# Altium footprint library Trig_PcbLib.PcbLib: 29 footprints (part 1 of 2)
Each footprint in its own frame and in the unit in brackets; x right, y up, seen from the top. Pads: shape width x height; smd on the part's side, far side on the other; paste and mask are expansions set on the pad; w line width, h text height; cw(c..) or ccw(c..) is an arc to the next point about the centre after c.
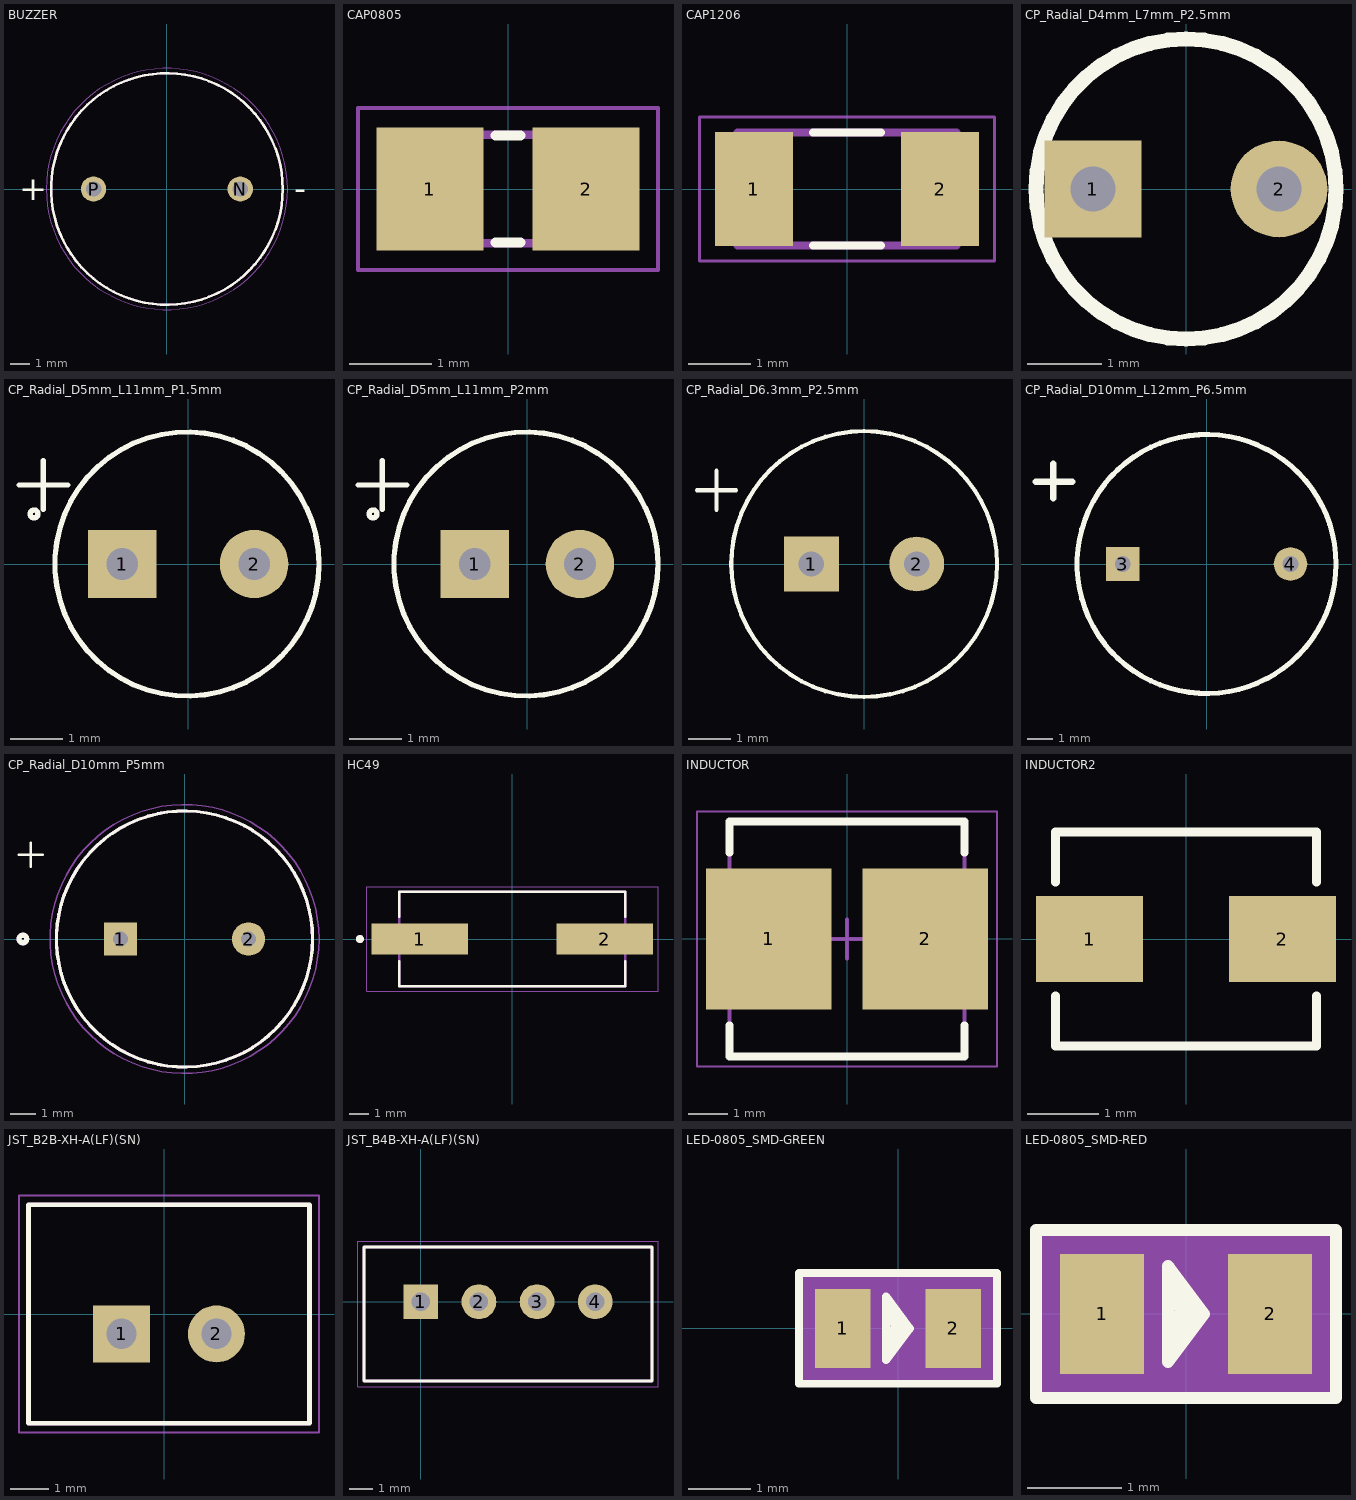
[diagram p0: the footprints below, top view; thin cyan lines are the x and y axes]

## BUZZER [mm]
pads (2):
  round 1.308 hole 0.8: N(3.8,0) P(-3.8,0)
Top Overlay:
  circle w0.127: c0,0 r6
  text "+" at -7.662,-0.572 h1.27
  text "-" at 6.607,-0.571 h1.27
Mechanical 13:
  circle w0.127: c0,0 r6
Mechanical 15:
  circle w0.05: c0,0 r6.25
3D body "Buzzer.step": height 9.56, standoff -5.44, extent -6,-5.925 6,6.075

## CAP0805 [mm]
pads (2):
  rect 1.3x1.5 smd: 1(-0.95,0) 2(0.95,0)
Top Overlay:
  lines w0.127: -0.15,-0.65 0.15,-0.65 ; -0.15,0.65 0.15,0.65
Mechanical 4:
  region: 0.356,0.726 1.106,0.726 1.106,-0.724 0.356,-0.724
  region: -1.092,0.726 -0.342,0.726 -0.342,-0.724 -1.092,-0.724
  region: 0.356,0.726 1.106,0.726 1.106,-0.724 0.356,-0.724
  region: -1.092,0.726 -0.342,0.726 -0.342,-0.724 -1.092,-0.724
  lines w0.102: -0.381,0.66 0.381,0.66 -0.381,0.66 ; -0.356,-0.66 0.381,-0.66 -0.356,-0.66
Mechanical 16:
  lines w0.051: -1.823,-0.983 -1.823,0.983 1.823,0.983 1.823,-0.983 -1.823,-0.983
3D body "70611053.stp": height 0.96, standoff -0.04, extent -1.1,-0.775 1.2,0.775

## CAP1206 [mm]
pads (2):
  rect 1.24x1.82 smd: 1(-1.485,0) 2(1.485,0)
Top Overlay:
  lines w0.127: -0.54,-0.9 0.54,-0.9 ; -0.54,0.9 0.54,0.9
Mechanical 4:
  lines w0.127: -1.75,-0.9 1.75,-0.9 ; -1.75,-0.9 -1.75,0.9 ; -1.75,-0.9 1.75,-0.9 ; -1.75,-0.9 -1.75,0.9 ; -1.75,0.9 1.75,0.9 ; -1.75,0.9 1.75,0.9 ; 1.75,-0.9 1.75,0.9 ; 1.75,-0.9 1.75,0.9
Mechanical 16:
  lines w0.05: -2.355,-1.15 2.355,-1.15 2.355,1.15 -2.355,1.15 -2.355,-1.15
3D body "1206 SMD Capacitor.step": height 1, standoff 0, extent -1.5,-0.775 1.7,0.825

## CP_Radial_D4mm_L7mm_P2.5mm [mm]
pads (2):
  rect 1.3x1.3 hole 0.6: 1(-1.25,0)
  round 1.3 hole 0.6: 2(1.25,0)
Top Overlay:
  circle w0.2: c0,0 r2.016
3D body "User Library-Cap electrolitic radial 4x7.STEP": height 7.15, standoff -1.35, extent -1.999,-2.073 1.999,1.925

## CP_Radial_D5mm_L11mm_P1.5mm [mm]
pads (2):
  rect 1.3x1.3 hole 0.6: 1(-1.25,0)
  round 1.3 hole 0.6: 2(1.25,0)
Top Overlay:
  circle w0.1: c-0.025,0 r2.506
  circle w0.1: c-2.925,0.95 r0.075
  lines w0.1: -3.212,1.5 -2.287,1.5 ; -2.75,1.037 -2.75,1.962
3D body "User Library-Cap electro 5x11x2mm.step": height 11.03, standoff -3.77, extent -2.55,-2.525 2.501,2.526

## CP_Radial_D5mm_L11mm_P2mm [mm]
pads (2):
  rect 1.3x1.3 hole 0.6: 1(-1,0)
  round 1.3 hole 0.6: 2(1,0)
Top Overlay:
  circle w0.1: c-0.025,0 r2.506
  circle w0.1: c-2.925,0.95 r0.075
  lines w0.1: -3.212,1.5 -2.287,1.5 ; -2.75,1.037 -2.75,1.962
3D body "User Library-Cap electro 5x11x2mm.step": height 11.03, standoff -3.77, extent -2.55,-2.525 2.501,2.526

## CP_Radial_D6.3mm_P2.5mm [mm]
pads (2):
  rect 1.3x1.3 hole 0.6: 1(-1.25,0)
  round 1.3 hole 0.6: 2(1.25,0)
Top Overlay:
  circle w0.1: c0,0 r3.151
  lines w0.1: -3.962,1.75 -3.037,1.75 ; -3.5,1.287 -3.5,2.212
3D body "User Library-Cap electro 6_3x11x2_5mm.step": height 11.53, standoff -3.01, extent -3.175,-3.175 3.176,3.176

## CP_Radial_D10mm_L12mm_P6.5mm [mm]
pads (2):
  rect 1.3x1.3 hole 0.6: 3(-3.25,0)
  round 1.3 hole 0.6: 4(3.25,0)
Top Overlay:
  circle w0.2: c0,0 r5.011
  lines w0.254: -6.6,3.175 -5.2,3.175 ; -5.925,2.55 -5.925,3.875

## CP_Radial_D10mm_P5mm [mm]
pads (2):
  rect 1.3x1.3 hole 0.6: 1(-2.5,0)
  round 1.3 hole 0.6: 2(2.5,0)
Top Overlay:
  circle w0.127: c0,0 r5
  circle w0.2: c-6.312,0 r0.15
  circle w0.2: c-6.312,0 r0.15
  lines w0.1: -6.462,3.288 -5.537,3.288 ; -6,2.825 -6,3.75
Mechanical 4:
  circle w0.127: c0,0 r5
  circle w0.2: c-6.312,0 r0.15
  circle w0.127: c0,0 r5
  circle w0.2: c-6.312,0 r0.15
Mechanical 16:
  circle w0.05: c0,0 r5.25
3D body "cpol-v_p5_d10-5_h16-5.stp": height 16.01, standoff -3.3, extent -5.175,-5.05 5.326,5.449

## HC49 [mm]
pads (2):
  rect 4.91x1.57 smd: 1(-4.7,0) 2(4.7,0)
Top Overlay:
  circle w0.2: c-7.75,0 r0.1
  lines w0.127: -5.75,-1.12 -5.75,-2.4 5.75,-2.4 5.75,-1.12 ; -5.75,1.12 -5.75,2.4 5.75,2.4 5.75,1.12
Mechanical 4:
  circle w0.2: c-7.75,0 r0.1
  circle w0.2: c-7.75,0 r0.1
  lines w0.127: -5.75,-2.4 -5.75,2.4 ; -5.75,-2.4 5.75,-2.4 ; -5.75,-2.4 -5.75,2.4 ; -5.75,-2.4 5.75,-2.4 ; -5.75,2.4 5.75,2.4 ; -5.75,2.4 5.75,2.4 ; 5.75,-2.4 5.75,2.4 ; 5.75,-2.4 5.75,2.4
Mechanical 16:
  lines w0.05: -7.41,-2.65 7.41,-2.65 7.41,2.65 -7.41,2.65 -7.41,-2.65
3D body "crystal-smd.STEP": height 4.3, standoff 0, extent -6.7,-2.4 6.8,2.6

## INDUCTOR [mm]
height 5
pads (2):
  rect 3.2x3.6 smd: 1(-2,0) 2(2,0)
Top Overlay:
  lines w0.2: -3,-2.2 -3,-3 3,-3 3,-2.2 ; -3,2.2 -3,3 3,3 3,2.2
Mechanical 13:
  lines w0.1: -3,-3 3,-3 3,3 -3,3 -3,-3
Mechanical 15:
  lines w0.05: -3.825,-3.25 3.825,-3.25 3.825,3.25 -3.825,3.25 -3.825,-3.25
  lines w0.1: -0.5,0 0.5,0 ; 0,-0.5 0,0.5
3D body "INDP2523X23N.step": height 5.1, standoff 0, extent -2.95,-2.85 2.95,2.85

## INDUCTOR2 [mm]
pads (2):
  rect 1.5x1.2 smd: 1(-1.35,0) 2(1.35,0)
Top Overlay:
  lines w0.127: -1.825,-0.8 -1.825,-1.5 1.825,-1.5 1.825,-0.8 ; -1.825,0.8 -1.825,1.5 1.825,1.5 1.825,0.8
3D body "uH.STEP": height 2.01, standoff 0.01, extent -1.925,-1.5 1.925,1.5

## JST_B2B-XH-A(LF)(SN) [mm]
pads (2):
  rect 1.5x1.5 hole 0.8: 1(-1.125,-0.517)
  round 1.5 hole 0.8: 2(1.375,-0.517)
Top Overlay:
  lines w0.127: -3.575,-2.867 3.825,-2.867 3.825,2.883 -3.575,2.883 -3.575,-2.867
Mechanical 4:
  lines w0.127: -3.575,-2.867 3.825,-2.867 ; -3.575,-2.867 -3.575,2.883 ; -3.575,-2.867 3.825,-2.867 ; -3.575,-2.867 -3.575,2.883 ; -3.575,2.883 3.825,2.883 ; -3.575,2.883 3.825,2.883 ; 3.825,-2.867 3.825,2.883 ; 3.825,-2.867 3.825,2.883
Mechanical 16:
  lines w0.05: -3.825,-3.117 4.075,-3.117 4.075,3.133 -3.825,3.133 -3.825,-3.117
3D body "B2B-XH-A(LF)(SN)--3DModel-STEP-56544.STEP": height 7.04, standoff -3.36, extent -3.575,-2.867 3.825,2.883

## JST_B4B-XH-A(LF)(SN) [mm]
pads (4):
  rect 1.5x1.5 hole 0.8: 1(0,0)
  round 1.5 hole 0.8: 2(2.5,0) 3(5,0) 4(7.5,0)
Top Overlay:
  lines w0.127: -2.45,-3.4 -2.45,2.35 9.95,2.35 9.95,-3.4 -2.45,-3.4
Mechanical 4:
  lines w0.127: -2.45,-3.4 -2.45,2.35 ; -2.45,-3.4 9.95,-3.4 ; -2.45,-3.4 -2.45,2.35 ; -2.45,-3.4 9.95,-3.4 ; -2.45,2.35 9.95,2.35 ; -2.45,2.35 9.95,2.35 ; 9.95,-3.4 9.95,2.35 ; 9.95,-3.4 9.95,2.35
Mechanical 16:
  lines w0.05: -2.7,-3.65 -2.7,2.6 10.2,2.6 10.2,-3.65 -2.7,-3.65
3D body "User Library-HEADER,JST,BxB-XH-A.step": height 7.29, standoff -3.11, extent -2.517,-3.464 9.883,2.286

## LED-0805_SMD-GREEN [mil]
pads (2):
  rect 35x50 smd: 1(-35,0) 2(35,0)
Top Overlay:
  lines w5: -7.5,-10 0,-10 ; -7.5,-10 -7.5,-20 0,-10 ; -7.5,-10 -7.5,0 ; -7.5,0 0,-10 ; -7.5,0 2.5,-5 -7.5,10 ; -7.5,0 -7.5,10 ; -7.5,10 5,-2.5 -7.5,20 ; -7.5,10 -7.5,20 ; -7.5,20 7.5,0 0,-10 ; -62.5,-35 -62.5,35 62.5,35 62.5,-35 -62.5,-35
Mechanical 1:
  pour cut-out: -126.97,53.15
Mechanical 16:
  region: -62.51,35 62.5,35 62.5,-35 -62.51,-35
3D body "led_0805 GREN.step": height 43.31, standoff 0, extent -42.26,-27.1 37.26,22.1

## LED-0805_SMD-RED [mil]
pads (2):
  rect 35x50 smd: 1(-35,0) 2(35,0)
Top Overlay:
  lines w5: -7.5,-10 -7.5,0 ; -7.5,-10 -7.5,-20 0,-10 ; -7.5,-10 0,-10 ; -7.5,0 -7.5,10 ; -7.5,0 2.5,-5 -7.5,10 ; -7.5,0 0,-10 ; -7.5,10 -7.5,20 ; -7.5,10 5,-2.5 -7.5,20 ; -7.5,20 7.5,0 0,-10 ; -62.5,-35 62.5,-35 62.5,35 -62.5,35 -62.5,-35
Mechanical 16:
  region: -62.51,35 62.5,35 62.5,-35 -62.51,-35
3D body "led_0805 RED.step": height 35.43, standoff -0.39, extent -43.84,-29.08 38.84,24.07